# Altium footprint library O_JonF_DaveL.PcbLib: 331 footprints (part 6 of 21)
Each footprint in its own frame and in the unit in brackets; x right, y up, seen from the top. Pads: shape width x height; smd on the part's side, far side on the other; paste and mask are expansions set on the pad; w line width, h text height; cw(c..) or ccw(c..) is an arc to the next point about the centre after c.
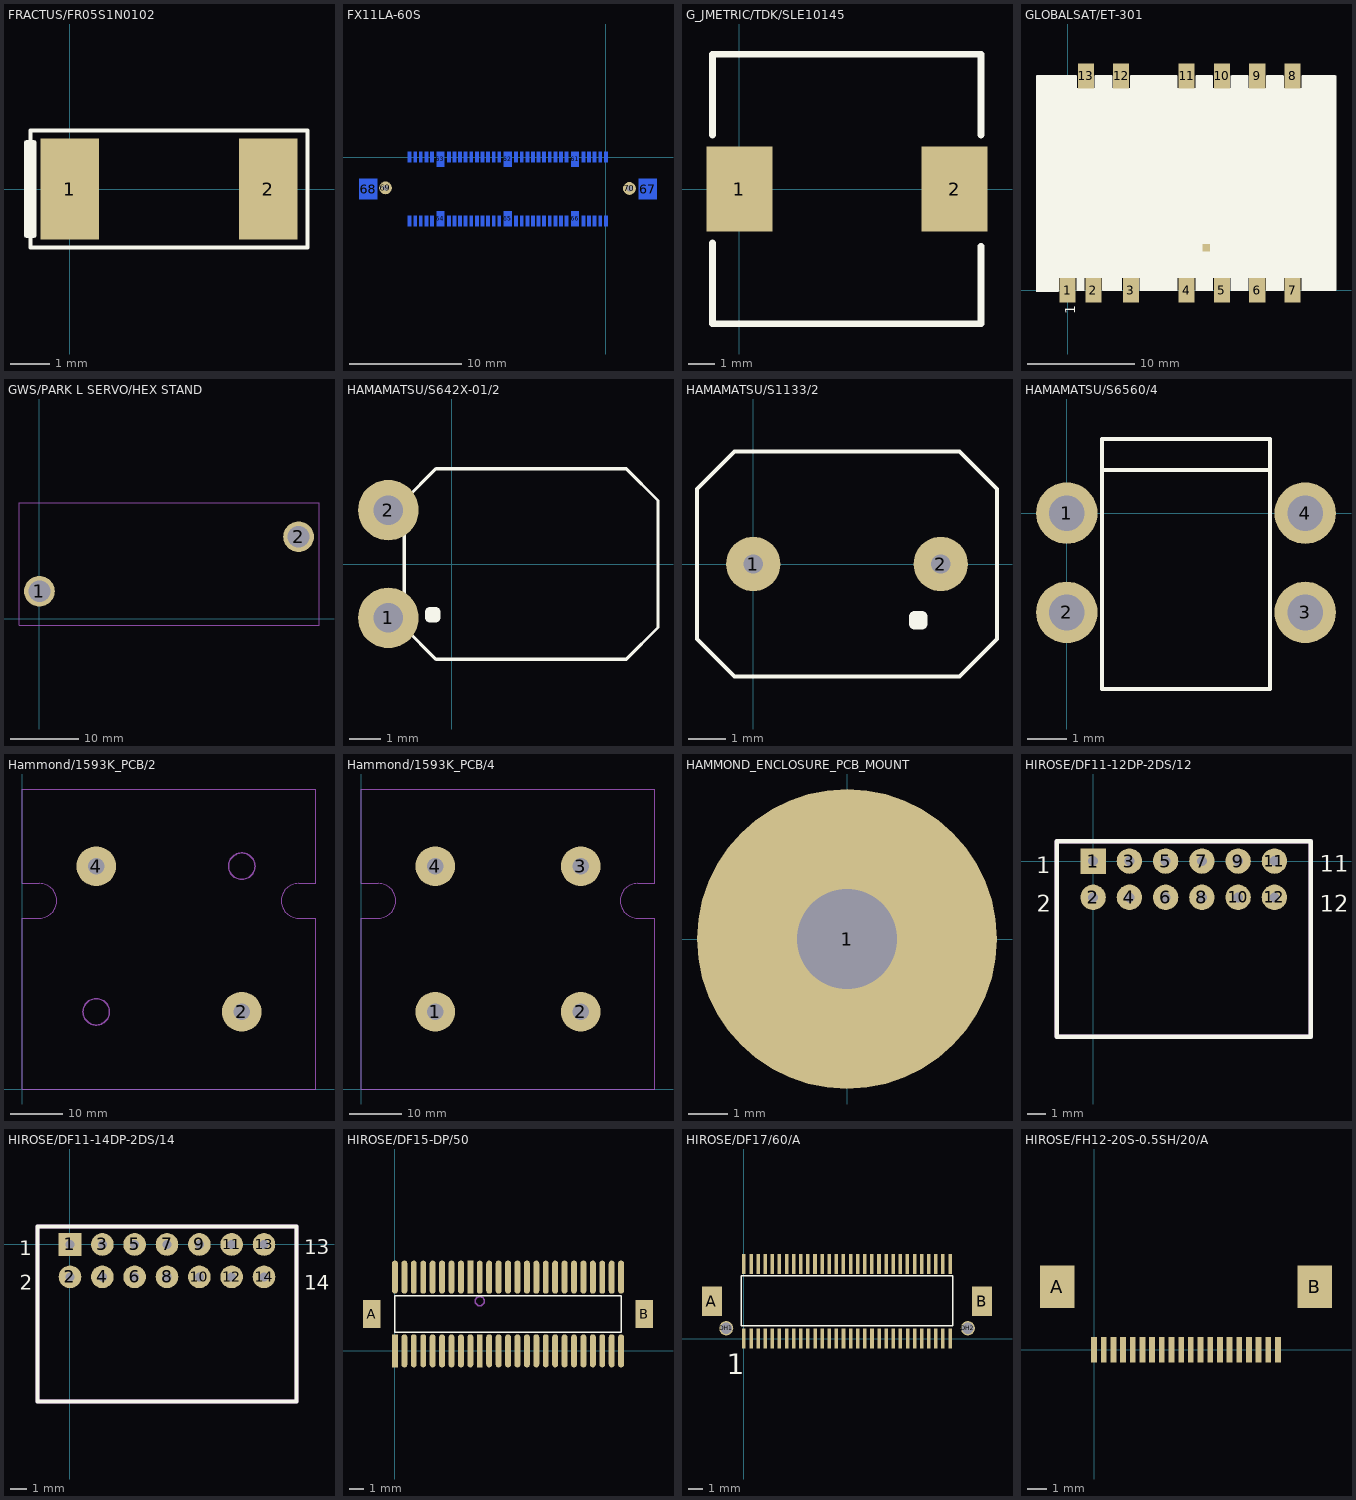
[diagram p5: the footprints below, top view; thin cyan lines are the x and y axes]

## FRACTUS/FR05S1N0102 [mm]
pads (2):
  rect 1.5x2.6 smd: 1(0,0) 2(5.1,0)
Top Overlay:
  region: -0.867,1.238 -0.851,1.2 -0.851,-1.2 -0.867,-1.238 -0.905,-1.254 -1.11,-1.254 -1.148,-1.238 -1.164,-1.2 -1.164,1.2 -1.148,1.238 -1.11,1.254 -0.905,1.254
  lines w0.1: -1,-1.5 -1,1.5 6.1,1.5 6.1,-1.5 -1,-1.5
  text ".Designator" at -1.02,1.764 h1.5
Mechanical 1:
  text ".Comment" at 0,6 h1.5
  text ".Designator" at 0,9 h1.5
  text "ANT FEEDS FROM HERE ->" at -35.1,-1.3 h1.43
  text ".Pattern" at 0,0 h1.5

## FX11LA-60S [mm]
pads (70):
  rect 0.3x0.9 smd far side: 1(0,0) 2(-0.5,0) 3(-1,0) 4(-1.5,0) 5(-2,0) 6(-3.5,0) 7(-4,0) 8(-4.5,0) 9(-5,0) 10(-5.5,0) 11(-6,0) 12(-6.5,0) 13(-7,0) 14(-7.5,0) 15(-8,0) 16(-9.5,0) 17(-10,0) 18(-10.5,0) 19(-11,0) 20(-11.5,0) 21(-12,0) 22(-12.5,0) 23(-13,0) 24(-13.5,0) 25(-14,0) 26(-15.5,0) 27(-16,0) 28(-16.5,0) 29(-17,0) 30(-17.5,0) 31(-17.5,-5.7) 32(-17,-5.7) 33(-16.5,-5.7) 34(-16,-5.7) 35(-15.5,-5.7) 36(-14,-5.7) 37(-13.5,-5.7) 38(-13,-5.7) 39(-12.5,-5.7) 40(-12,-5.7) 41(-11.5,-5.7) 42(-11,-5.7) 43(-10.5,-5.7) 44(-10,-5.7) 45(-9.5,-5.7) 46(-8,-5.7) 47(-7.5,-5.7) 48(-7,-5.7) 49(-6.5,-5.7) 50(-6,-5.7) 51(-5.5,-5.7) 52(-5,-5.7) 53(-4.5,-5.7) 54(-4,-5.7) 55(-3.5,-5.7) 56(-2,-5.7) 57(-1.5,-5.7) 58(-1,-5.7) 59(-0.5,-5.7) 60(0,-5.7)
  rect 0.7x1.3 smd far side: 61(-2.75,-0.2) 62(-8.75,-0.2) 63(-14.75,-0.2) 64(-14.75,-5.5) 65(-8.75,-5.5) 66(-2.75,-5.5)
  rect 1.6x1.8 smd far side: 67(3.75,-2.85) 68(-21.2,-2.85)
  round 1.143 hole 0.508: 69(-19.65,-2.75) 70(2.1,-2.8)
Top Overlay:
  text ".Designator" at -3,1 h1.5
Mechanical 1:
  text ".Pattern" at -15,-9 h1.5
  text ".Designator" at -3,1 h1.5

## G_JMETRIC/TDK/SLE10145 [mil]
pads (2):
  rect 98.4x126 smd: 1(0,0) 2(318.88,0)
Top Overlay:
  lines w10: -40,-80 -40,-200 358.27,-200 358.27,-85 ; -40,80 -40,200 357.64,200 ; 358.27,80 358.27,200

## GLOBALSAT/ET-301 [mm]
pads (14):
  rect 1.5x2.3 smd: 1(0,0) 2(2.4,0) 3(5.9,0) 4(11.1,0) 5(14.4,0) 6(17.7,0) 7(21,0) 8(21,20) 9(17.7,20) 10(14.4,20) 11(11.1,20) 12(5,20) 13(1.7,20)
  rect 0.7x0.7 smd: 14(12.954,3.95)
Top Overlay:
  pour cut-out: 13.526,4.534 13.542,4.496 13.542,3.404 13.526,3.365 13.487,3.349 12.421,3.349 12.382,3.365 12.366,3.404 12.366,4.496 12.382,4.534 12.421,4.55 13.487,4.55
  region: 25.038,20.038 25.054,20 25.054,0 25.038,-0.038 25,-0.054 21.9,-0.054 21.862,-0.038 21.846,0 21.846,1.146 20.154,1.146 20.154,0 20.138,-0.038 20.1,-0.054 18.6,-0.054 18.562,-0.038 18.546,0 18.546,1.146 16.854,1.146 16.854,0 16.838,-0.038 16.8,-0.054 15.3,-0.054 15.262,-0.038 15.246,0 15.246,1.146 13.554,1.146 13.554,0 13.538,-0.038 13.5,-0.054 12,-0.054 11.962,-0.038 11.946,0 11.946,1.146 10.254,1.146 10.254,0 10.238,-0.038 10.2,-0.054 6.8,-0.054 6.762,-0.038 6.746,0 6.746,1.146 5.054,1.146 5.054,0 5.038,-0.038 5,-0.054 3.3,-0.054 3.262,-0.038 3.246,0 3.246,1.146 1.554,1.146 1.554,0 1.538,-0.038 1.5,-0.054 0.9,-0.054 0.862,-0.038 0.846,0 0.846,1.146 -0.846,1.146 -0.846,-0.1 -0.862,-0.138 -0.9,-0.154 -2.9,-0.154 -2.938,-0.138 -2.954,-0.1 -2.954,20 -2.938,20.038 -2.9,20.054 0.8,20.054 0.838,20.038 0.854,20 0.854,18.854 2.546,18.854 2.546,20 2.562,20.038 2.6,20.054 4.1,20.054 4.138,20.038 4.154,20 4.154,18.854 5.846,18.854 5.846,20 5.862,20.038 5.9,20.054 10.2,20.054 10.238,20.038 10.254,20 10.254,18.854 11.946,18.854 11.946,20 11.962,20.038 12,20.054 13.5,20.054 13.538,20.038 13.554,20 13.554,18.854 15.246,18.854 15.246,20 15.262,20.038 15.3,20.054 16.8,20.054 16.838,20.038 16.854,20 16.854,18.854 18.546,18.854 18.546,20 18.562,20.038 18.6,20.054 20.1,20.054 20.138,20.038 20.154,20 20.154,18.854 21.846,18.854 21.846,20 21.862,20.038 21.9,20.054 25,20.054
  text "1" at 0.712,-2.259 h0.95
  text ".Designator" at -3.3,1.8 h0.95
Mechanical 1:
  text ".Designator" at 2.3,13.2 h0.95
  text ".Comment" at 2.4,11.5 h0.95
  text ".Pattern" at 2.4,8 h0.95

## GWS/PARK L SERVO/HEX STAND [mm]
pads (2):
  round 4.5 hole 3.2: 1(0,4) 2(38,12)
Mechanical 1:
  lines w0.001: -3,-1 41,-1 41,17 -3,17 -3,-1

## HAMAMATSU/S642X-01/2 [mm]
pads (2):
  round 1.91 hole 0.93: 1(-2,-1.7) 2(-2,1.7)
Top Overlay:
  lines w0.1: -1.5,-2 -0.5,-3 5.5,-3 6.5,-2 6.5,2 5.5,3 -0.5,3 -1.5,2 -1.5,-2
  lines w0.3: -0.7,-1.7 -0.7,-1.5 -0.5,-1.5 -0.5,-1.7 -0.7,-1.7
  text ".Designator" at -0.3,2.9 h1.5
Mechanical 1:
  text ".Pattern" at 0,0 h1.5
  text ".Comment" at 0,6 h1.5
  text ".Designator" at 0,9 h1.5

## HAMAMATSU/S1133/2 [mm]
pads (2):
  round 1.45 / inner round 0.94 / far side round 1.45 hole 0.508: 1(0,0) 2(5,0)
Top Overlay:
  lines w0.1: -1.5,-2 -0.5,-3 5.5,-3 6.5,-2 6.5,2 5.5,3 -0.5,3 -1.5,2 -1.5,-2
  lines w0.3: 4.3,-1.6 4.3,-1.4 4.5,-1.4 4.5,-1.6 4.3,-1.6
  text ".Designator" at -0.3,2.9 h1.5
Mechanical 1:
  text ".Pattern" at 0,0 h1.5
  text ".Comment" at 0,6 h1.5
  text ".Designator" at 0,9 h1.5

## HAMAMATSU/S6560/4 [mil]
pads (4):
  round 62 hole 35.83: 1(0,0) 2(0,-100) 3(240.16,-100) 4(240.16,0)
Top Overlay:
  lines w3.94: 35.43,43.31 204.72,43.31 ; 35.43,-177.17 35.43,74.8 204.72,74.8 204.72,-177.17 35.43,-177.17
  text "." at 31.5,-27.56 h56.25
  text ".Designator" at 35.43,66.93 h59.06
Mechanical 1:
  text ".Pattern" at 3.94,66.93 h59.06
  text ".Comment" at 0,236.22 h59.06
  text ".Designator" at 0,354.33 h59.06

## Hammond/1593K_PCB/2 [mil] "Hammond Mfg. Small Instrument Enclosure Model 1593K PCB outline and features"
pads (2):
  round 300 hole 126: 2(1661,584) 4(559,1686)
Mechanical 2:
  circle w10: c559,584 r100
  circle w10: c1661,1686 r100
  text "BOSS" at 1602,1693 h30
  text "BELOW" at 1591,1637 h30
  text "BELOW" at 492,536 h30
  text "BOSS" at 505,593 h30
Mechanical 14:
  lines w1: 0,0 2220,0 2220,1293 2090,1293 cw(c2090,1424) 2090,1555 2220,1555 2220,2270 0,2270 0,1555 130,1555 cw(c130,1424) 130,1293 0,1293 0,0

## Hammond/1593K_PCB/4 [mil] "Hammond Mfg. Small Instrument Enclosure Model 1593K PCB outline and features"
pads (4):
  round 300 hole 126: 1(559,584) 2(1661,584) 3(1661,1686) 4(559,1686)
Mechanical 14:
  lines w1: 0,0 2220,0 2220,1293 2090,1293 cw(c2090,1424) 2090,1555 2220,1555 2220,2270 0,2270 0,1555 130,1555 cw(c130,1424) 130,1293 0,1293 0,0

## HAMMOND_ENCLOSURE_PCB_MOUNT [mil]
pads (1):
  round 300 hole 100: 1(0,0)
Top Overlay:
  text ".Designator" at 0,337.5 h56.25
Mechanical 1:
  text ".Designator" at 0,337.5 h56.25
  text ".Comment" at 0,225 h56.25
  text ".Pattern" at 0,0 h56.25

## HIROSE/DF11-12DP-2DS/12 [mm]
pads (12):
  rect 1.4x1.4 hole 0.559: 1(0,0)
  round 1.4 hole 0.559: 2(0,-2) 3(2,0) 4(2,-2) 5(4,0) 6(4,-2) 7(6,0) 8(6,-2) 9(8,0) 10(8,-2) 11(10,0) 12(10,-2)
Top Overlay:
  lines w0.254: -2,-9.7 -2,1.1 12,1.1 12,-9.7 -2,-9.7
  text "11" at 12.5,-0.6 h0.9
  text "12" at 12.5,-2.8 h0.9
  text "2" at -3.1,-2.8 h0.9
  text "1" at -3.153,-0.668 h0.9
  text ".Designator" at -2.094,1.322 h0.95
Mechanical 1:
  lines w0.254: -2,-9.7 -2,1.1 12,1.1 12,-9.7 -2,-9.7
  text ".Designator" at 12.206,-2.048 h0.95
  text "1" at -3.153,-0.668 h0.95
  text ".Pattern" at 8.467,-3.007 h0.57
  text ".Comment" at 11.853,-4.588 h0.95

## HIROSE/DF11-14DP-2DS/14 [mm]
pads (14):
  rect 1.4x1.4 hole 0.559: 1(0,0)
  round 1.4 hole 0.559: 2(0,-2) 3(2,0) 4(2,-2) 5(4,0) 6(4,-2) 7(6,0) 8(6,-2) 9(8,0) 10(8,-2) 11(10,0) 12(10,-2) 13(12,0) 14(12,-2)
Top Overlay:
  lines w0.254: -2,-9.7 -2,1.1 14,1.1 14,-9.7 -2,-9.7
  text ".Designator" at -2.094,1.322 h0.95
  text "1" at -3.153,-0.668 h0.9
  text "2" at -3.1,-2.8 h0.9
  text "14" at 14.5,-2.8 h0.9
  text "13" at 14.5,-0.6 h0.9
Mechanical 1:
  lines w0.254: -2,-9.7 -2,1.1 14,1.1 14,-9.7 -2,-9.7
  text ".Comment" at 11.853,-4.588 h0.95
  text ".Pattern" at 8.467,-3.007 h0.57
  text "1" at -3.153,-0.668 h0.95
  text ".Designator" at 12.206,-2.048 h0.95

## HIROSE/DF15-DP/50 [mil]
pads (52):
  rect 16x90 smd: 1(0,0) 10(230.4,0) 42(204.8,200.24)
  oval 16x90 smd: 2(25.6,0) 3(51.2,0) 4(76.8,0) 5(102.4,0) 6(128,0) 7(153.6,0) 8(179.2,0) 9(204.8,0) 11(256,0) 12(281.6,0) 13(307.2,0) 14(332.8,0) 15(358.4,0) 16(384,0) 17(409.6,0) 18(435.2,0) 19(460.8,0) 20(486.38,0) 21(511.97,0) 22(537.56,0) 23(563.15,0) 24(588.74,0) 25(614.33,0) 26(614.33,200.24) 27(588.74,200.24) 28(563.15,200.24) 29(537.56,200.24) 30(511.97,200.24) 31(486.38,200.24) 32(460.8,200.24) 33(435.2,200.24) 34(409.6,200.24) 35(384,200.24) 36(358.4,200.24) 37(332.8,200.24) 38(307.2,200.24) 39(281.6,200.24) 40(256,200.24) 41(230.4,200.24) 43(179.2,200.24) 44(153.6,200.24) 45(128,200.24) 46(102.4,200.24) 47(76.8,200.24) 48(51.2,200.24) 49(25.6,200.24) 50(0,200.24)
  rect 47.24x74.8 smd: A(-62.99,100.12) B(677.17,100.12)
Top Overlay:
  lines w3.94: 0,51.18 0,149.61 614.17,149.61 614.17,51.18 0,51.18
  text ".Designator" at -211.95,110.88 h37.5
Mechanical 1:
  text ".Designator" at 163.05,110.88 h37.5
  text ".Comment" at 144.87,170 h37.5
  text ".Pattern" at 28.2,68.23 h22.5
Mechanical 3:
  lines w4: 217.9,135 cw(c230.4,135) 230.4,147.5 cw(c230.4,135) 242.9,135 cw(c230.4,135) 230.4,122.5 cw(c230.4,135) 217.9,135

## HIROSE/DF17/60/A [mm]
pads (64):
  rect 0.25x1.4 smd: 1(0,0) 2(0.5,0) 3(1,0) 4(1.5,0) 5(2,0) 6(2.5,0) 7(3,0) 8(3.503,0) 9(4.003,0) 10(4.503,0) 11(5.004,0) 12(5.504,0) 13(6.005,0) 14(6.505,0) 15(7.005,0) 16(7.506,0) 17(8.006,0) 18(8.506,0) 19(9.007,0) 20(9.507,0) 21(10.008,0) 22(10.508,0) 23(11.008,0) 24(11.509,0) 25(12.009,0) 26(12.509,0) 27(13,0) 28(13.5,0) 29(14,0) 30(14.5,0) 31(14.5,5.25) 32(14,5.25) 33(13.5,5.25) 34(13,5.25) 35(12.5,5.25) 36(12,5.25) 37(11.5,5.25) 38(11,5.25) 39(10.5,5.25) 40(10,5.25) 41(9.5,5.25) 42(9,5.25) 43(8.5,5.25) 44(8,5.25) 45(7.5,5.25) 46(7,5.25) 47(6.5,5.25) 48(6,5.25) 49(5.5,5.25) 50(5,5.25) 51(4.5,5.25) 52(4,5.25) 53(3.5,5.25) 54(3,5.25) 55(2.5,5.25) 56(2,5.25) 57(1.5,5.25) 58(1,5.25) 59(0.5,5.25) 60(0,5.25)
  rect 1.4x2.1 smd: A(-2.25,2.625) B(16.75,2.625)
  round 1 hole 0.8: DH1(-1.25,0.725) DH2(15.75,0.725)
Top Overlay:
  lines w0.1: -0.2,0.9 14.7,0.9 14.7,4.4 -0.2,4.4 -0.2,0.9
  text "1" at -1.2,-2.5 h1.43
  text ".Designator" at -5.752,9.357 h0.95
Mechanical 1:
  text ".Designator" at 5.043,8.722 h0.95
  text ".Comment" at 4.581,10.223 h0.95
  text ".Pattern" at 1.407,7.639 h0.57

## HIROSE/FH12-20S-0.5SH/20/A [mm]
pads (22):
  rect 0.3x1.3 smd: 1(0,0) 2(0.5,0) 3(1,0) 4(1.5,0) 5(2,0) 6(2.5,0) 7(3,0) 8(3.5,0) 9(4,0) 10(4.5,0) 11(5,0) 12(5.5,0) 13(6,0) 14(6.5,0) 15(7,0) 16(7.5,0) 17(8,0) 18(8.5,0) 19(9,0) 20(9.5,0)
  rect 1.8x2.2 smd: A(-1.9,3.25) B(11.4,3.25)
Top Overlay:
  text ".Designator" at -3,-3 h1.5
Mechanical 1:
  text ".Designator" at -3,-3 h1.5
  text ".Comment" at -3,9 h1.5
  text ".Pattern" at -3,5 h1.5